# EAGLE library part MIKROE_BUS_CONN (library io)
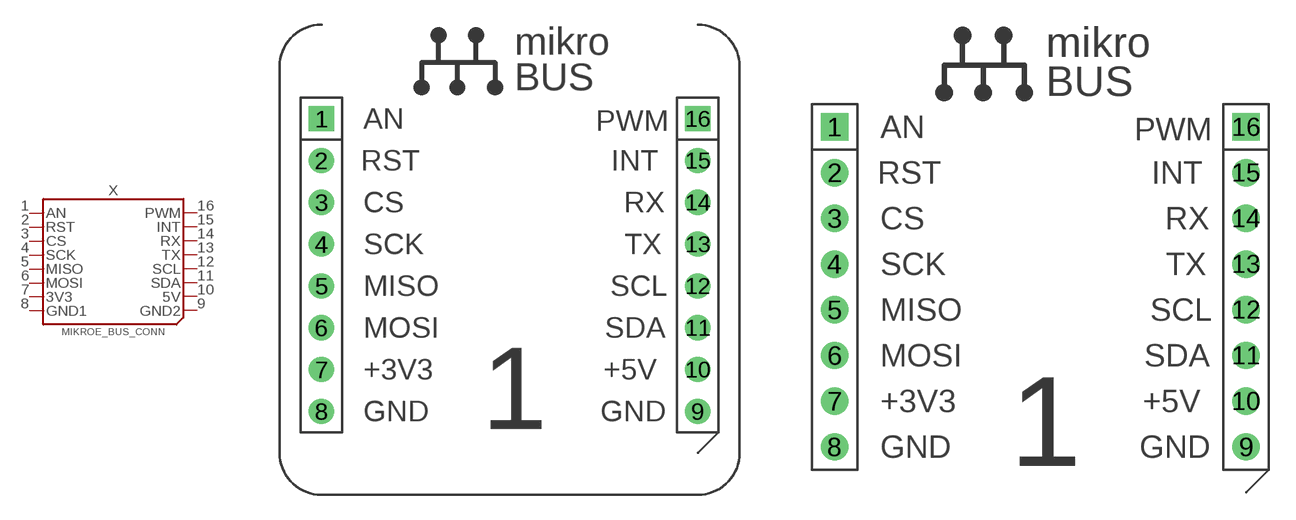
[diagram p1: symbol with the pads of MIKROBUS_SOCKET; footprints MIKROBUS_SOCKET, MIKROBUS_SOCKET_NO_OUTLINE]

Designator prefix X

## MIKROE_BUS_CONN/SOCKET (CIRCUITS: 16; EAGLEUP: MIKROBUS_SOCKET;;; MFR: Molex; MPN: 90147-1108; QTY: 2)  [MIKROBUS_SOCKET]
1  AN
2  RST
3  CS
4  SCK
5  MISO
6  MOSI
7  3V3
8  GND1
9  GND2
10  5V
11  SDA
12  SCL
13  TX
14  RX
15  INT
16  PWM

## MIKROE_BUS_CONN/SOCKET/NO_OUTLINE (CIRCUITS: 16; EAGLEUP: MIKROBUS_SOCKET;;; MFR: Molex; MPN: 90147-1108; QTY: 2)  [MIKROBUS_SOCKET_NO_OUTLINE]
Pads as for MIKROBUS_SOCKET

## MIKROE_BUS_CONN/SOCKET/NO_OUTLINE/COMPACT (CIRCUITS: 16; EAGLEUP: MIKROBUS_SOCKET;;; MFR: Molex; MPN: 90147-1108,90147-1108)  [MIKROBUS_SOCKET_NO_OUTLINE_COMPACT]
Pads as for MIKROBUS_SOCKET

## Footprint MIKROBUS_SOCKET (pad centres in mm)
drill 0.787 pad 1.524 square: 1 -11.43,8.89; 16 11.43,8.89
drill 0.787 pad 1.524: 2 -11.43,6.35; 3 -11.43,3.81; 4 -11.43,1.27; 5 -11.43,-1.27; 6 -11.43,-3.81; 7 -11.43,-6.35; 8 -11.43,-8.89; 9 11.43,-8.89; 10 11.43,-6.35; 11 11.43,-3.81; 12 11.43,-1.27; 13 11.43,1.27; 14 11.43,3.81; 15 11.43,6.35

## Footprint MIKROBUS_SOCKET_NO_OUTLINE (pad centres in mm)
drill 0.787 pad 1.524 square: 1 -11.43,8.89; 16 11.43,8.89
drill 0.787 pad 1.524: 2 -11.43,6.35; 3 -11.43,3.81; 4 -11.43,1.27; 5 -11.43,-1.27; 6 -11.43,-3.81; 7 -11.43,-6.35; 8 -11.43,-8.89; 9 11.43,-8.89; 10 11.43,-6.35; 11 11.43,-3.81; 12 11.43,-1.27; 13 11.43,1.27; 14 11.43,3.81; 15 11.43,6.35

## Footprint MIKROBUS_SOCKET_NO_OUTLINE_COMPACT (pad centres in mm)
drill 0.787 pad 1.524 square: 1 -11.43,8.89; 16 11.43,8.89
drill 0.787 pad 1.524: 2 -11.43,6.35; 3 -11.43,3.81; 4 -11.43,1.27; 5 -11.43,-1.27; 6 -11.43,-3.81; 7 -11.43,-6.35; 8 -11.43,-8.89; 9 11.43,-8.89; 10 11.43,-6.35; 11 11.43,-3.81; 12 11.43,-1.27; 13 11.43,1.27; 14 11.43,3.81; 15 11.43,6.35